# Altium schematic symbol library CAP POL 10uF RADIAL.Schlib: 1 symbol
Pins are listed as number, name and electrical type; pins without a type are passive.

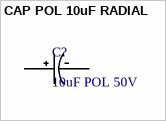
[diagram p0: symbol CAP POL 10uF RADIAL]

## CAP POL 10uF RADIAL
designator C?, comment 10uF POL 50V
CAP ALUM 10UF 50V RADIAL
pins: NEG, POS